# Altium schematic symbol library APS_00.SchLib: 14 symbols
Pins are listed as number, name and electrical type; pins without a type are passive.

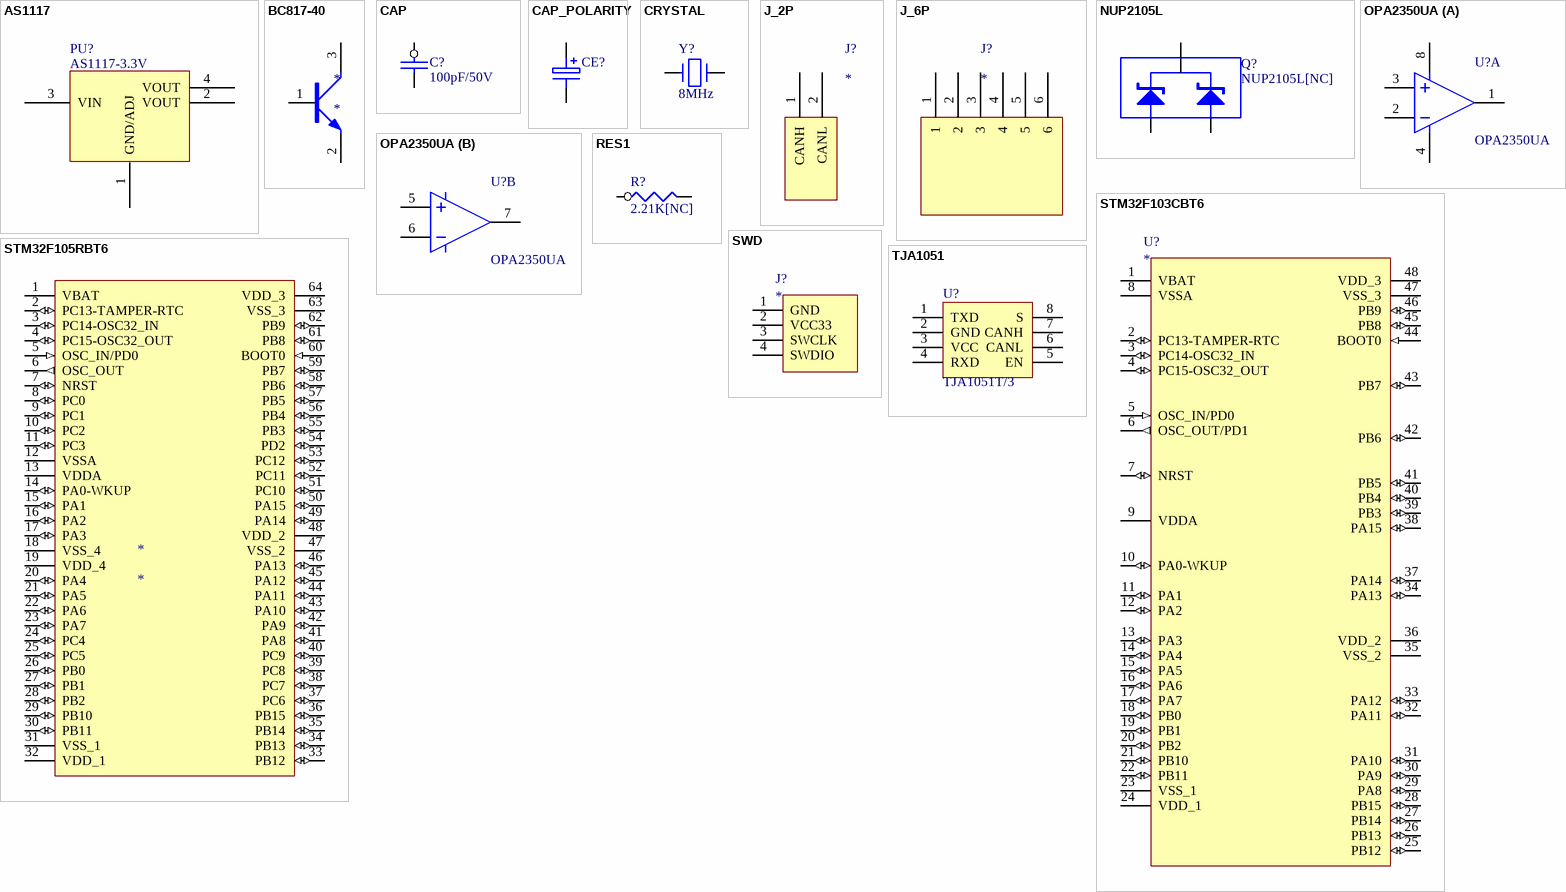
[diagram p0: symbols AS1117 to TJA1051]

## AS1117
designator PU?, comment AS1117-3.3V
footprint SOT-223
pins: 1 GND/ADJ, 2 VOUT, 3 VIN, 4 VOUT

## BC817-40
designator *
footprint SOT-23
pins: 1, 2, 3

## CAP
designator C?, comment 100pF/50V
footprint 0603C
footprint 0805C
pins: 1, 2
2 alternate drawings of the same symbol

## CAP_POLARITY
designator CE?
footprint CAP8*8
footprint 1206C - TA (Chip Capacitor, Body 3.2x1.6mm, IPC High Density)
pins: 1, 2

## CRYSTAL
designator Y?, comment 8MHz
footprint CRYSTAL
pins: 1, 2

## J_2P
designator J?
footprint J_2P
pins: 1 CANH, 2 CANL

## J_6P
designator J?
footprint J_6P
pins: 1, 2, 3, 4, 5, 6

## NUP2105L
designator Q?, comment NUP2105L[NC]
footprint SOT-23
pins: 1, 2, 3

## OPA2350UA
designator U?
footprint SOP-8
part A pins: 1, 2, 3, 4, 8
part B pins: 5, 6, 7

## RES1
designator R?, comment 2.21K[NC]
footprint 0603R
footprint 0805R
pins: 1, 2
2 alternate drawings of the same symbol

## STM32F103CBT6
designator U?
footprint LQFP-48 (TSQFP, 48-Leads, Body 9,0x9,0mm (max), Pitch 0,50mm, IPC Medium Density)
pins: 1 VBAT (power), 2 PC13-TAMPER-RTC (io), 3 PC14-OSC32_IN (io), 4 PC15-OSC32_OUT (io), 5 OSC_IN/PD0 (in), 6 OSC_OUT/PD1 (out), 7 NRST (io), 8 VSSA (power), 9 VDDA (power), 10 PA0-WKUP (io), 11 PA1 (io), 12 PA2 (io), 13 PA3 (io), 14 PA4 (io), 15 PA5 (io), 16 PA6 (io), 17 PA7 (io), 18 PB0 (io), 19 PB1 (io), 20 PB2 (io), 21 PB10 (io), 22 PB11 (io), 23 VSS_1 (power), 24 VDD_1 (power), 25 PB12 (io), 26 PB13 (io), 27 PB14 (io), 28 PB15 (io), 29 PA8 (io), 30 PA9 (io), 31 PA10 (io), 32 PA11 (io), 33 PA12 (io), 34 PA13 (io), 35 VSS_2 (power), 36 VDD_2 (power), 37 PA14 (io), 38 PA15 (io), 39 PB3 (io), 40 PB4 (io), 41 PB5 (io), 42 PB6 (io), 43 PB7 (io), 44 BOOT0 (in), 45 PB8 (io), 46 PB9 (io), 47 VSS_3 (power), 48 VDD_3 (power)

## STM32F105RBT6
designator *
footprint LQFP-64
pins: 1 VBAT (power), 2 PC13-TAMPER-RTC (io), 3 PC14-OSC32_IN (io), 4 PC15-OSC32_OUT (io), 5 OSC_IN/PD0 (in), 6 OSC_OUT (out), 7 NRST (io), 8 PC0 (io), 9 PC1 (io), 10 PC2 (io), 11 PC3 (io), 12 VSSA (power), 13 VDDA (power), 14 PA0-WKUP (io), 15 PA1 (io), 16 PA2 (io), 17 PA3 (io), 18 VSS_4 (power), 19 VDD_4 (power), 20 PA4 (io), 21 PA5 (io), 22 PA6 (io), 23 PA7 (io), 24 PC4 (io), 25 PC5 (io), 26 PB0 (io), 27 PB1 (io), 28 PB2 (io), 29 PB10 (io), 30 PB11 (io), 31 VSS_1 (power), 32 VDD_1 (power), 33 PB12 (io), 34 PB13 (io), 35 PB14 (io), 36 PB15 (io), 37 PC6 (io), 38 PC7 (io), 39 PC8 (io), 40 PC9 (io), 41 PA8 (io), 42 PA9 (io), 43 PA10 (io), 44 PA11 (io), 45 PA12 (io), 46 PA13 (io), 47 VSS_2 (power), 48 VDD_2 (power), 49 PA14 (io), 50 PA15 (io), 51 PC10 (io), 52 PC11 (io), 53 PC12 (io), 54 PD2 (io), 55 PB3 (io), 56 PB4 (io), 57 PB5 (io), 58 PB6 (io), 59 PB7 (io), 60 BOOT0 (in), 61 PB8 (io), 62 PB9 (io), 63 VSS_3 (power), 64 VDD_3 (power)

## SWD
designator J?
footprint SIP4
pins: 1 GND, 2 VCC33, 3 SWCLK, 4 SWDIO

## TJA1051
designator U?, comment TJA1051T/3
footprint SOP-8
pins: 1 TXD, 2 GND, 3 VCC, 4 RXD, 5 EN, 6 CANL, 7 CANH, 8 S